# EAGLE library part SN74HCT00 (library 74hc00)
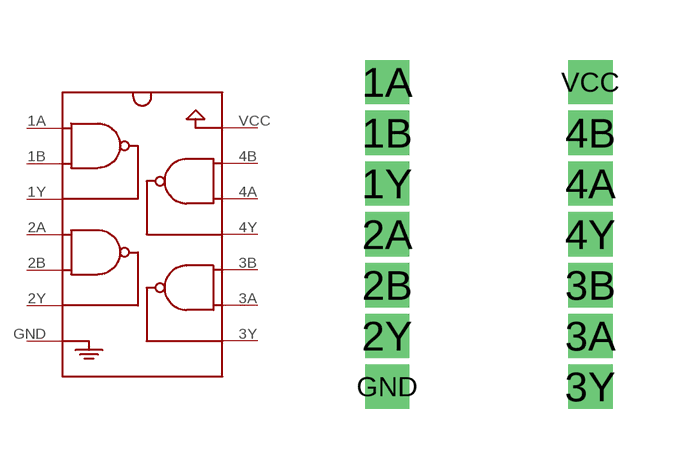
[diagram p0: symbol with the pads of SN74HCT00; footprint SN74HCT00]

Designator prefix -

## SN74HCT00  [SN74HCT00]
1A  P$1
1B  P$2
1Y  P$3
2A  P$4
2B  P$5
2Y  P$6
3A  P$13
3B  P$12
3Y  P$14
4A  P$10
4B  P$9
4Y  P$11
GND  P$7
VCC  P$8

## Footprint SN74HCT00 (pad centres in mm)
drill 0.6 square: 1A 0,0; 1B 0,-1.27; 1Y 0,-2.54; 2A 0,-3.81; 2B 0,-5.08; 2Y 0,-6.35; 3A 5.08,-6.35; 3B 5.08,-5.08; 3Y 5.08,-7.62; 4A 5.08,-2.54; 4B 5.08,-1.27; 4Y 5.08,-3.81; GND 0,-7.62; VCC 5.08,0